# Altium schematic symbol library PESD3V3L1BA_115.SchLib: 1 symbol
Pins are listed as number, name and electrical type; pins without a type are passive.

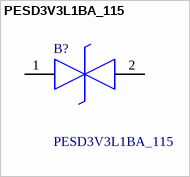
[diagram p0: symbol PESD3V3L1BA_115]

## PESD3V3L1BA_115
designator B?
PESD3V3L1BA - Low capacitance bidirectional ESD protection diode in SOD323; Manufacturer_Name: Nexperia; Manufacturer_Part_Number: PESD3V3L1BA,115; Geometry.Height: 1.1mm; Mouser Part Number: 771-PESD3V3L1BA-T/R; Mouser Price/Stock: https://www.mouser.co.uk/ProductDetail/Nexperia/PESD3V3L1BA115?qs=LOCUfHb8d9tfcQwAsqvzKg%3D%3D; Arrow Part Number: PESD3V3L1BA,115; Arrow Price/Stock: https://www.arrow.com/en/products/pesd3v3l1ba115/nexperia?region=nac; Datasheet Link: https://assets.nexperia.com/documents/data-sheet/PESDXL1BA_SER.pdf
footprint SOD2512X110N
pins: 1 K1, 2 K2